# EAGLE library part MIDAS_MCCOG21605B6W-FPTLWI (library df4iah_lcd)
MIDAS MCCOG21605B6W-FPTLWI 16 x 2 character dot matrix LCD controlled by I2C bus 3.3V
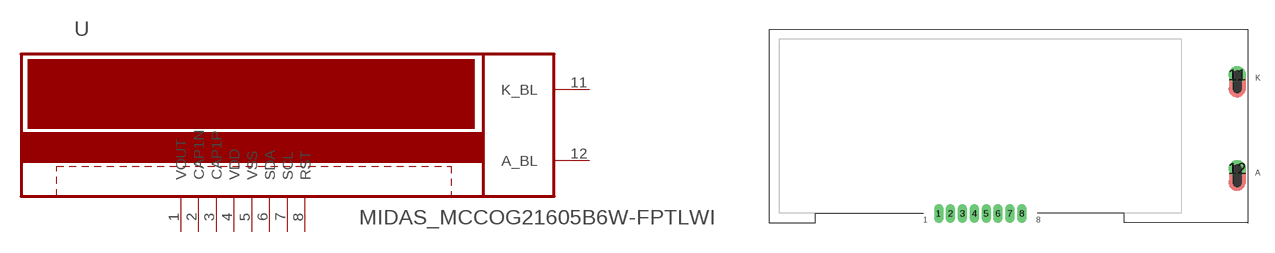
[diagram p1: symbol with the pads of MIDAS_MCCOG21605B6W-FPTLWI; footprint MIDAS_MCCOG21605B6W-FPTLWI]

Designator prefix U

## MIDAS_MCCOG21605B6W-FPTLWI  [MIDAS_MCCOG21605B6W-FPTLWI]
1  VOUT  pas
2  CAP1N  pas
3  CAP1P  pas
4  VDD  pwr
5  VSS  pwr
6  SDA
7  SCL  in
8  RST  in
11  K_BL  pas
12  A_BL  pas

## Footprint MIDAS_MCCOG21605B6W-FPTLWI (pad centres in mm)
MIDAS MCCOG21605B6W-FPTLWI 16 x 2 character dot matrix LCD controlled by I2C bus 3.3V
drill 0.5 pad 0.7 long: 1 18.155,1; 2 19.425,1; 3 20.695,1; 4 21.965,1; 5 23.235,1; 6 24.505,1; 7 25.775,1; 8 27.045,1
drill 1 pad 1.8: 11 50.05,15.8; 12 50.05,5.8